# Altium schematic symbol library PCB_Project.SCHLIB: 14 symbols
Pins are listed as number, name and electrical type; pins without a type are passive.

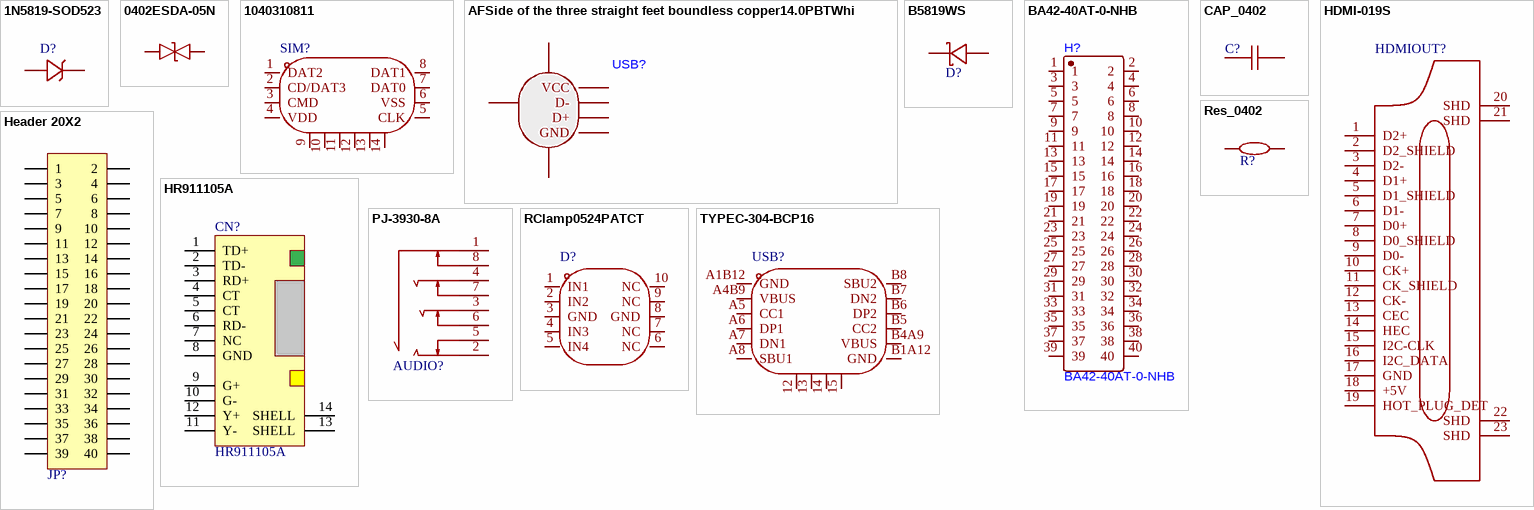
[diagram p0: symbols 1N5819-SOD523 to TYPEC-304-BCP16]

## 1N5819-SOD523
designator D?  (value not drawn)
footprint SOD-523_L1.2-W0.8-LS1.6-FD
pins: 1 A, 2 K

## 0402ESDA-05N
designator D?  (value not drawn)
footprint D0402
pins: 1, 2

## 1040310811
designator SIM?, comment SIM-SMD_8P-1040310811  (value not drawn)
footprint SIM-SMD_8P-1040310811
pins: 1 DAT2, 2 CD/DAT3, 3 CMD, 4 VDD, 5 CLK, 6 VSS, 7 DAT0, 8 DAT1, 9, 10, 11, 12, 13, 14

## AFSide of the three straight feet boundless copper14.0PBTWhite plastic90degree
designator USB?
footprint USB-A-TH_4P-P1.40-V-F-C39416
pins: 1 VCC, 2 D-, 3 D+, 4 GND, 5, 6, 7

## B5819WS
designator D?  (value not drawn)
footprint SOD-323_L1.8-W1.3-LS2.5-NSK
pins: 1 K, 2 A

## BA42-40AT-0-NHB
designator H?
footprint CONN-SMD_40P-P0.80_10144517-042802LF
pins: 1, 2, 3, 4, 5, 6, 7, 8, 9, 10, 11, 12, 13, 14, 15, 16, 17, 18, 19, 20, 21, 22, 23, 24, 25, 26, 27, 28, 29, 30, 31, 32, 33, 34, 35, 36, 37, 38, 39, 40

## CAP_0402
designator C?, comment 4.7uF  (value not drawn)
footprint C0402
pins: 1, 2

## HDMI-019S
designator HDMIOUT?  (value not drawn)
footprint HDMI-SMD_HDMI-019S
pins: 1 D2+, 2 D2_SHIELD, 3 D2-, 4 D1+, 5 D1_SHIELD, 6 D1-, 7 D0+, 8 D0_SHIELD, 9 D0-, 10 CK+, 11 CK_SHIELD, 12 CK-, 13 CEC, 14 HEC, 15 I2C-CLK, 16 I2C_DATA, 17 GND, 18 +5V, 19 HOT_PLUG_DET, 20 SHD, 21 SHD, 22 SHD, 23 SHD

## Header 20X2
designator JP?, comment Header 2X11  (value not drawn)
20*2P接插件
footprint HDR2.54-LI-2x20P (双排排针，20x2脚)
pins: 1, 2, 3, 4, 5, 6, 7, 8, 9, 10, 11, 12, 13, 14, 15, 16, 17, 18, 19, 20, 21, 22, 23, 24, 25, 26, 27, 28, 29, 30, 31, 32, 33, 34, 35, 36, 37, 38, 39, 40

## HR911105A
designator CN?
带灯以太网接口
footprint RJ8-HR911105A
pins: 1 TD+, 2 TD-, 3 RD+, 4 CT, 5 CT, 6 RD-, 7 NC, 8 GND, 9 G+, 10 G-, 11 Y-, 12 Y+, 13 SHELL, 14 SHELL

## PJ-3930-8A
designator AUDIO?  (value not drawn)
footprint AUDIO-TH_PJ-3930-8A
pins: 1, 2, 3, 4, 5, 6, 7, 8

## RClamp0524PATCT
designator D?  (value not drawn)
footprint SLP2510P8_L2.5-W1.0-P0.50-BL
pins: 1 IN1, 2 IN2, 3 GND, 4 IN3, 5 IN4, 6 NC, 7 NC, 8 GND, 9 NC, 10 NC

## Res_0402
designator R?, comment 47K  (value not drawn)
footprint R0402-NSK_2
pins: 1, 2

## TYPEC-304-BCP16
designator USB?, comment USB-C-SMD_TYPEC-304-BCP16  (value not drawn)
footprint USB-C-SMD_TYPEC-304-BCP16-1
pins: 12 1, 13 2, 14 3, 15 4, A1B12 GND, A4B9 VBUS, A5 CC1, A6 DP1, A7 DN1, A8 SBU1, B1A12 GND, B4A9 VBUS, B5 CC2, B6 DP2, B7 DN2, B8 SBU2